# Altium footprint library PCB - CAPACITOR - ALUMINIUM - CAP ALSMD ELEC 3.3MM H5.5MM.pcblib: 1 footprints
Each footprint in its own frame and in the unit in brackets; x right, y up, seen from the top. Pads: shape width x height; smd on the part's side, far side on the other; paste and mask are expansions set on the pad; w line width, h text height; cw(c..) or ccw(c..) is an arc to the next point about the centre after c.
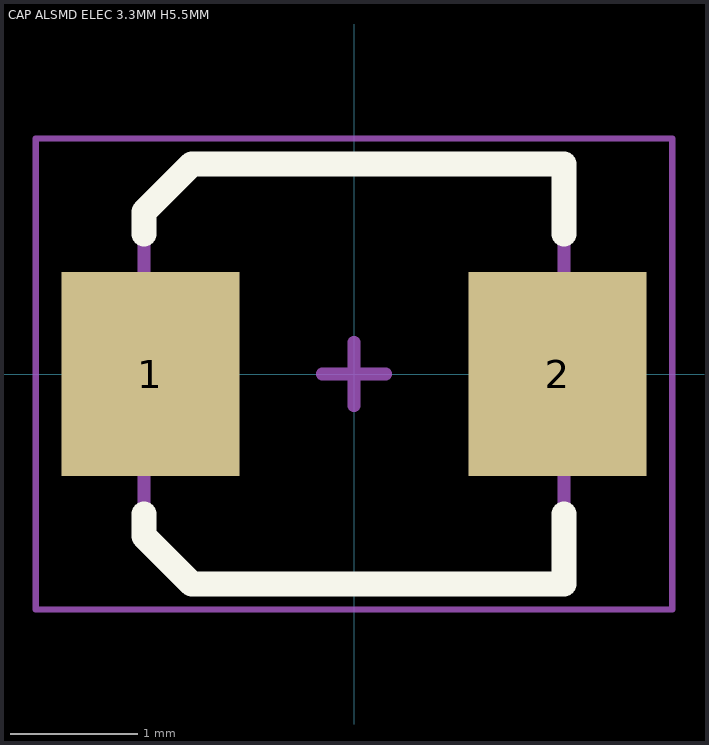
[diagram p0: the footprint, top view; thin cyan lines are the x and y axes]

## CAP ALSMD ELEC 3.3MM H5.5MM [mm] "Aluminum SMD Electrolytic Capacitor, 3.30mm Land Size, 3.00mm Diameter, 5.50mm Height, 3.80mm Maximum Leads Span"
height 0.8
pads (2):
  rect 1.4x1.6 smd: 1(-1.6,0) 2(1.6,0)
Top Overlay:
  lines w0.2: -1.65,-1.1 -1.65,-1.275 -1.275,-1.65 1.65,-1.65 1.65,-1.1 ; -1.65,1.1 -1.65,1.275 -1.275,1.65 1.65,1.65 1.65,1.1
Mechanical 13:
  lines w0.1: -1.65,-1.275 -1.65,1.275 -1.275,1.65 1.65,1.65 1.65,-1.65 -1.275,-1.65 -1.65,-1.275
Mechanical 15:
  lines w0.05: -2.5,-1.85 -2.5,1.85 2.5,1.85 2.5,-1.85 -2.5,-1.85
  lines w0.1: -0.25,0 0.25,0 ; 0,-0.25 0,0.25
3D body: height 5.5, standoff 0, extent -1.9,-1.65 1.9,1.65